# EAGLE library part NHD-5.0-800480TF-ATXL-CTP_LCD (library ik)
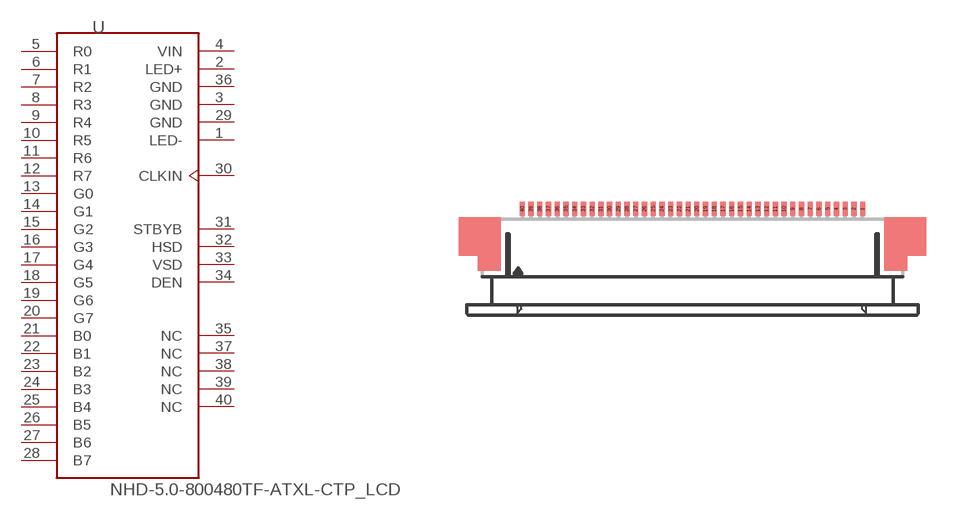
[diagram p4: symbol with the pads of 54132-4097; footprint 54132-4097]

Designator prefix -

## NHD-5.0-800480TF-ATXL-CTP_LCD  [54132-4097]
1  LED-  pwr
2  LED+  pwr
3  GND  pwr
4  VIN  pwr
5  R0  in
6  R1  in
7  R2  in
8  R3  in
9  R4  in
10  R5  in
11  R6  in
12  R7  in
13  G0  in
14  G1  in
15  G2  in
16  G3  in
17  G4  in
18  G5  in
19  G6  in
20  G7  in
21  B0  in
22  B1  in
23  B2  in
24  B3  in
25  B4  in
26  B5  in
27  B6  in
28  B7  in
29  GND  pwr
30  CLKIN  in
31  STBYB  in
32  HSD  in
33  VSD  in
34  DEN  in
35  NC  nc
36  GND  pwr
37  NC  nc
38  NC  nc
39  NC  nc
40  NC  nc

## Footprint 54132-4097 (pad centres in mm)
FFC/FPC-to-Board 0.50mm (.020") SMT Top Contact Right Angle, ZIF, Style Receptacle 52745 / 52435 Source: http://www.molex.com/product/ffc/52745.html
smd 0.3 x 0.8: 1 12.25,2.5; 2 11.75,2.5; 3 11.25,2.5; 4 10.75,2.5; 5 10.25,2.5; 6 9.75,2.5; 7 9.25,2.5; 8 8.75,2.5; 9 8.25,2.5; 10 7.75,2.5; 11 7.25,2.5; 12 6.75,2.5; 13 6.25,2.5; 14 5.75,2.5; 15 5.25,2.5; 16 4.75,2.5; 17 4.25,2.5; 18 3.75,2.5; 19 3.25,2.5; 20 2.75,2.5; 21 2.25,2.5; 22 1.75,2.5; 23 1.25,2.5; 24 0.75,2.5; 25 0.25,2.5; 26 -0.25,2.5; 27 -0.75,2.5; 28 -1.25,2.5; 29 -1.75,2.5; 30 -2.25,2.5; 31 -2.75,2.5; 32 -3.25,2.5; 33 -3.75,2.5; 34 -4.25,2.5; 35 -4.75,2.5; 36 -5.25,2.5; 37 -5.75,2.5; 38 -6.25,2.5; 39 -6.75,2.5; 40 -7.25,2.5